# Altium footprint library WR-UMRF.PcbLib: 1 footprints
Each footprint in its own frame and in the unit in brackets; x right, y up, seen from the top. Pads: shape width x height; smd on the part's side, far side on the other; paste and mask are expansions set on the pad; w line width, h text height; cw(c..) or ccw(c..) is an arc to the next point about the centre after c.
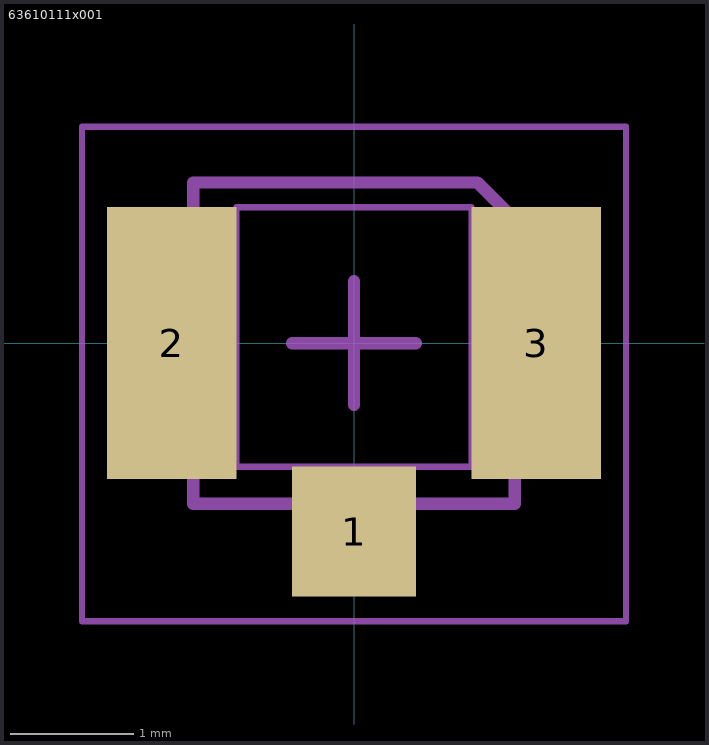
[diagram p0: the footprint, top view; thin cyan lines are the x and y axes]

## 63610111x001 [mm] "RF CONNECTOR VERTICAL 1.25MM"
height 1.25
pads (3):
  rect 1x1.05 smd: 1(0,-1.525)
  rect 1.05x2.2 smd: 2(-1.475,0) 3(1.475,0)
Assembly Notes:
  lines w0.05: -0.95,-1 -0.95,1.1 0.95,1.1 0.95,-1 -0.95,-1
  text "Cutout  / prohibition  / area" at -1.05,-0.35 h0.2
Top Assembly:
  lines w0.1: -1.3,-1.3 -1.3,1.3 1,1.3 1.3,1 1.3,-1.3 -1.3,-1.3
Top Designator:
  text ".Designator" at -3.647,-0.357 h1
Top 3D Body:
  lines w0.1: -1.3,-1.3 1.3,-1.3 1.3,1 1,1.3 -1.3,1.3 -1.3,-1.3
Top Courtyard:
  lines w0.05: -2.2,-2.25 -2.2,1.751 2.2,1.751 2.2,-2.25 -2.2,-2.25
Top Component Center:
  lines w0.1: -0.5,0 0.5,0 ; 0,-0.5 0,0.5
3D body "63610111x001.stp": height 1.25, standoff 0, extent -1.5,-1.55 1.5,1.551